# EAGLE library part DOME_BD3_CLOSED (library print-key)
OMRON Dome Key Single-key Type Added to Series of B3DA Ultra-low Profile Dome Arrays Source: Ultra-low Profile Dome Key B3D 0.4 -.pdf
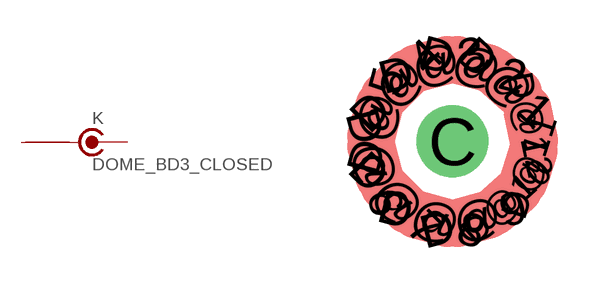
[diagram p4: symbol with the pads of DOME_BD3_CLOSED; footprint DOME_BD3_CLOSED]

Designator prefix K

## DOME_BD3_CLOSED  [DOME_BD3_CLOSED]
C  C  in
D@1  D  in
D@2  D  in
D@3  D  in
D@4  D  in
D@5  D  in
D@6  D  in
D@7  D  in
D@8  D  in
D@9  D  in
D@10  D  in
D@11  D  in
D@12  D  in

## Footprint DOME_BD3_CLOSED (pad centres in mm)
OMRON Dome Key Source: Ultra-low Profile Dome Key B3D 0.4 -.pdf
drill 0.5 pad 1.8 round: C 0,0
smd 2 x 1.2 rotated 318: D@1 1.338,1.486
smd 2 x 1.2 rotated 345: D@2 0.517,1.931
smd 2 x 1.2 rotated 15: D@3 -0.517,1.931
smd 2 x 1.2 rotated 45: D@4 -1.413,1.414
smd 2 x 1.2 rotated 75: D@5 -1.931,0.517
smd 2 x 1.2 rotated 105: D@6 -1.931,-0.517
smd 2 x 1.2 rotated 135: D@7 -1.414,-1.413
smd 2 x 1.2 rotated 165: D@8 -0.517,-1.931
smd 2 x 1.2 rotated 195: D@9 0.517,-1.931
smd 2 x 1.2 rotated 222: D@10 1.337,-1.486
smd 2 x 1.2 rotated 252: D@11 1.901,-0.618
smd 2 x 1.2 rotated 282: D@12 1.955,0.415